# EAGLE library part 68HC908QB8 (library motorola-hc08)
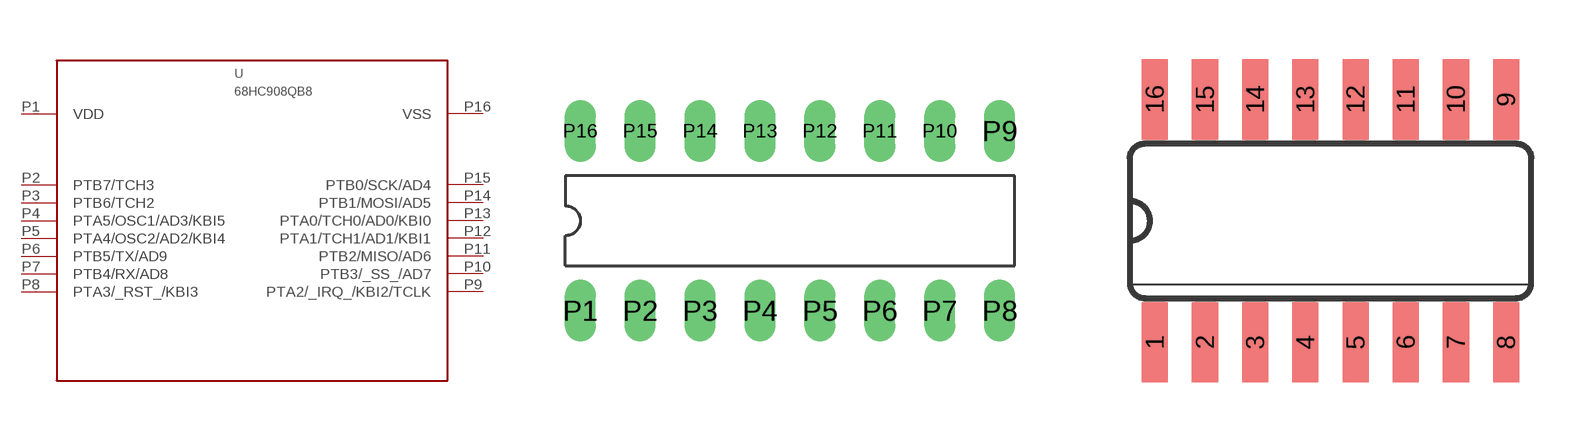
[diagram p2: symbol with the pads of DIL16; footprints DIL16, SO16]

Designator prefix -

## 68HC908QB8  [DIL16]
P1  VDD  pas
P2  PTB7/TCH3  pas
P3  PTB6/TCH2  pas
P4  PTA5/OSC1/AD3/KBI5  pas
P5  PTA4/OSC2/AD2/KBI4  pas
P6  PTB5/TX/AD9  pas
P7  PTB4/RX/AD8  pas
P8  PTA3/_RST_/KBI3  pas
P9  PTA2/_IRQ_/KBI2/TCLK  pas
P10  PTB3/_SS_/AD7  pas
P11  PTB2/MISO/AD6  pas
P12  PTA1/TCH1/AD1/KBI1  pas
P13  PTA0/TCH0/AD0/KBI0  pas
P14  PTB1/MOSI/AD5  pas
P15  PTB0/SCK/AD4  pas
P16  VSS  pas

## 68HC908QB8SMD  [SO16]
1  VDD  pas
2  PTB7/TCH3  pas
3  PTB6/TCH2  pas
4  PTA5/OSC1/AD3/KBI5  pas
5  PTA4/OSC2/AD2/KBI4  pas
6  PTB5/TX/AD9  pas
7  PTB4/RX/AD8  pas
8  PTA3/_RST_/KBI3  pas
9  PTA2/_IRQ_/KBI2/TCLK  pas
10  PTB3/_SS_/AD7  pas
11  PTB2/MISO/AD6  pas
12  PTA1/TCH1/AD1/KBI1  pas
13  PTA0/TCH0/AD0/KBI0  pas
14  PTB1/MOSI/AD5  pas
15  PTB0/SCK/AD4  pas
16  VSS  pas

## 68HC908QB8SMD2  [SO16L]
Pads as for SO16

## Footprint DIL16 (pad centres in mm)
drill 0.813 long: P1 -8.89,-3.81; P2 -6.35,-3.81; P3 -3.81,-3.81; P4 -1.27,-3.81; P5 1.27,-3.81; P6 3.81,-3.81; P7 6.35,-3.81; P8 8.89,-3.81; P9 8.89,3.81; P10 6.35,3.81; P11 3.81,3.81; P12 1.27,3.81; P13 -1.27,3.81; P14 -3.81,3.81; P15 -6.35,3.81; P16 -8.89,3.81

## Footprint SO16 (pad centres in mm)
smd 0.66 x 2.032: 1 -4.445,-3.073; 2 -3.175,-3.073; 3 -1.905,-3.073; 4 -0.635,-3.073; 5 0.635,-3.073; 6 1.905,-3.073; 7 3.175,-3.073; 8 4.445,-3.073; 9 4.445,3.073; 10 3.175,3.073; 11 1.905,3.073; 12 0.635,3.073; 13 -0.635,3.073; 14 -1.905,3.073; 15 -3.175,3.073; 16 -4.445,3.073

## Footprint SO16L (pad centres in mm)
smd 0.66 x 2.032: 1 -4.445,-4.902; 2 -3.175,-4.902; 3 -1.905,-4.902; 4 -0.635,-4.902; 5 0.635,-4.902; 6 1.905,-4.902; 7 3.175,-4.902; 8 4.445,-4.902; 9 4.445,4.902; 10 3.175,4.902; 11 1.905,4.902; 12 0.635,4.902; 13 -0.635,4.902; 14 -1.905,4.902; 15 -3.175,4.902; 16 -4.445,4.902